# EAGLE library part ST-MICROELECTRONICS_M24M02-DRMN6TP (library power_control)
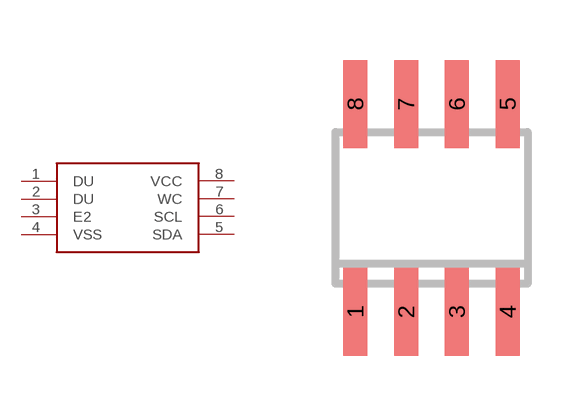
[diagram p2: symbol with the pads of ST-MICROELECTRONICS_SO08; footprint ST-MICROELECTRONICS_SO08]

Designator prefix -

## ST-MICROELECTRONICS_M24M02-DRMN6TP  [ST-MICROELECTRONICS_SO08]
1  DU
2  DU
3  E2
4  VSS
5  SDA
6  SCL
7  WC
8  VCC

## Footprint ST-MICROELECTRONICS_SO08 (pad centres in mm)
SMALL OUTLINE INTEGRATED CIRCUIT body 3.9 mm/JEDEC MS-012AA
smd 0.6 x 2.2: 1 -1.905,-2.6; 2 -0.635,-2.6; 3 0.635,-2.6; 4 1.905,-2.6; 5 1.905,2.6; 6 0.635,2.6; 7 -0.635,2.6; 8 -1.905,2.6